# Altium footprint library PcbLib1.PcbLib: 2 footprints
Each footprint in its own frame and in the unit in brackets; x right, y up, seen from the top. Pads: shape width x height; smd on the part's side, far side on the other; paste and mask are expansions set on the pad; w line width, h text height; cw(c..) or ccw(c..) is an arc to the next point about the centre after c.
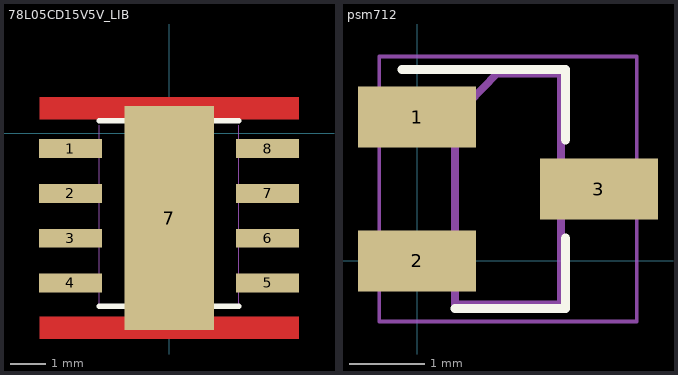
[diagram p0: the footprints below, top view; thin cyan lines are the x and y axes]

## 78L05CD15V5V_LIB [mil]
pads (9):
  rect 70.87x21 smd: 1(-110.35,-17.44) 2(-110.35,-67.44) 3(-110.35,-117.44) 4(-110.35,-167.44) 5(109.65,-167.44) 6(109.65,-117.44) 7(109.65,-67.44) 8(109.65,-17.44)
  rect 100x250 smd paste+0 mask+0: 7(0,-95)
Top Layer:
  rectangle: -145,-230 145,-205
  rectangle: -145,15 145,40
  region: 85,105
Top Overlay:
  lines w6: -78.35,-193.44 77.65,-193.44 ; -78.35,13.56 -12.35,13.56 ; 77.65,13.56 11.65,13.56 ; -12.35,13.56 ccw(c-0.35,13.56) 11.65,13.56 ; -12.35,13.56 11.65,13.56
Mechanical 15:
  lines w0.39: -78.35,8.56 -78.35,-193.44 77.65,-193.44 77.65,8.56 ; -78.35,13.56 -12.35,13.56 ; 77.65,13.56 11.65,13.56 ; -12.35,13.56 ccw(c-0.35,13.56) 11.65,13.56 ; -12.35,13.56 11.65,13.56 ; -124.35,-176.44 -124.35,-158.44 -78.35,-158.44 -78.35,-176.44 -124.35,-176.44 ; -124.35,-126.44 -124.35,-108.44 -78.35,-108.44 -78.35,-126.44 -124.35,-126.44 ; -124.35,-76.44 -124.35,-58.44 -78.35,-58.44 -78.35,-76.44 -124.35,-76.44 ; -124.35,-26.44 -124.35,-8.44 -78.35,-8.44 -78.35,-26.44 -124.35,-26.44 ; 77.65,-176.44 77.65,-158.44 123.65,-158.44 123.65,-176.44 77.65,-176.44 ; 77.65,-126.44 77.65,-108.44 123.65,-108.44 123.65,-126.44 77.65,-126.44 ; 77.65,-76.44 77.65,-58.44 123.65,-58.44 123.65,-76.44 77.65,-76.44 ; 77.65,-26.44 77.65,-8.44 123.65,-8.44 123.65,-26.44 77.65,-26.44

## psm712 [mil]
pads (3):
  rect 61.42x31.5 smd: 1(0,74.8) 2(0,0) 3(94.48,37.4)
Top Overlay:
  lines w4.72: -7.88,99.6 77.16,99.6 77.16,62.99 ; 19.68,-24.8 77.16,-24.8 77.16,11.81
Mechanical 1:
  lines w1.97: -19.69,-31.5 -19.69,106.3 114.17,106.3 114.17,-31.5 -19.69,-31.5
Mechanical 15:
  lines w3.94: 19.68,-22.44 74.8,-22.44 74.8,97.24 41.33,97.24 19.68,74.8 19.68,-21.66
  text "Q3" at 57.08,21.65 h19.68